# Altium schematic symbol library FlyAndDive.SchLib: 6 symbols
Pins are listed as number, name and electrical type; pins without a type are passive.

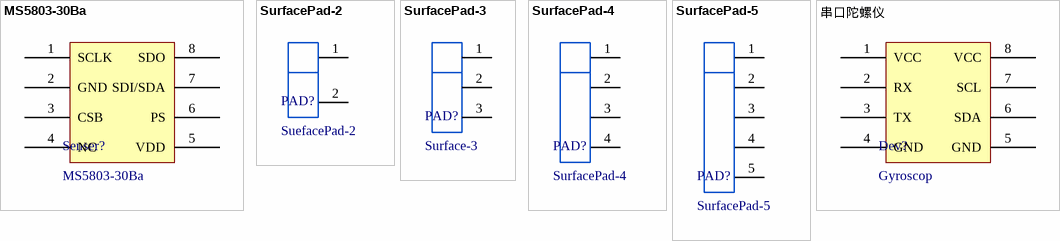
[diagram p0: symbols MS5803-30Ba to 串口陀螺仪]

## MS5803-30Ba
designator Senser?
footprint MS5803-XXBa (Pressure Sensors)
pins: 1 SCLK, 2 GND, 3 CSB, 4 NC, 5 VDD, 6 PS, 7 SDI/SDA, 8 SDO

## SurfacePad-2
designator PAD?, comment SuefacePad-2
footprint SurfacePad-2
pins: 1, 2

## SurfacePad-3
designator PAD?, comment Surface-3
footprint SurfacePad-3
pins: 1, 2, 3

## SurfacePad-4
designator PAD?
footprint SurfacePad-S4
pins: 1, 2, 3, 4

## SurfacePad-5
designator PAD?
footprint SurfacePad-5
pins: 1, 2, 3, 4, 5

## 串口陀螺仪
designator Dev?, comment Gyroscop
footprint 串口陀螺仪
pins: 1 VCC, 2 RX, 3 TX, 4 GND, 5 GND, 6 SDA, 7 SCL, 8 VCC